# Altium schematic symbol library pporyzala-TI_Lighting.SchLib: 745 symbols (part 33 of 48)
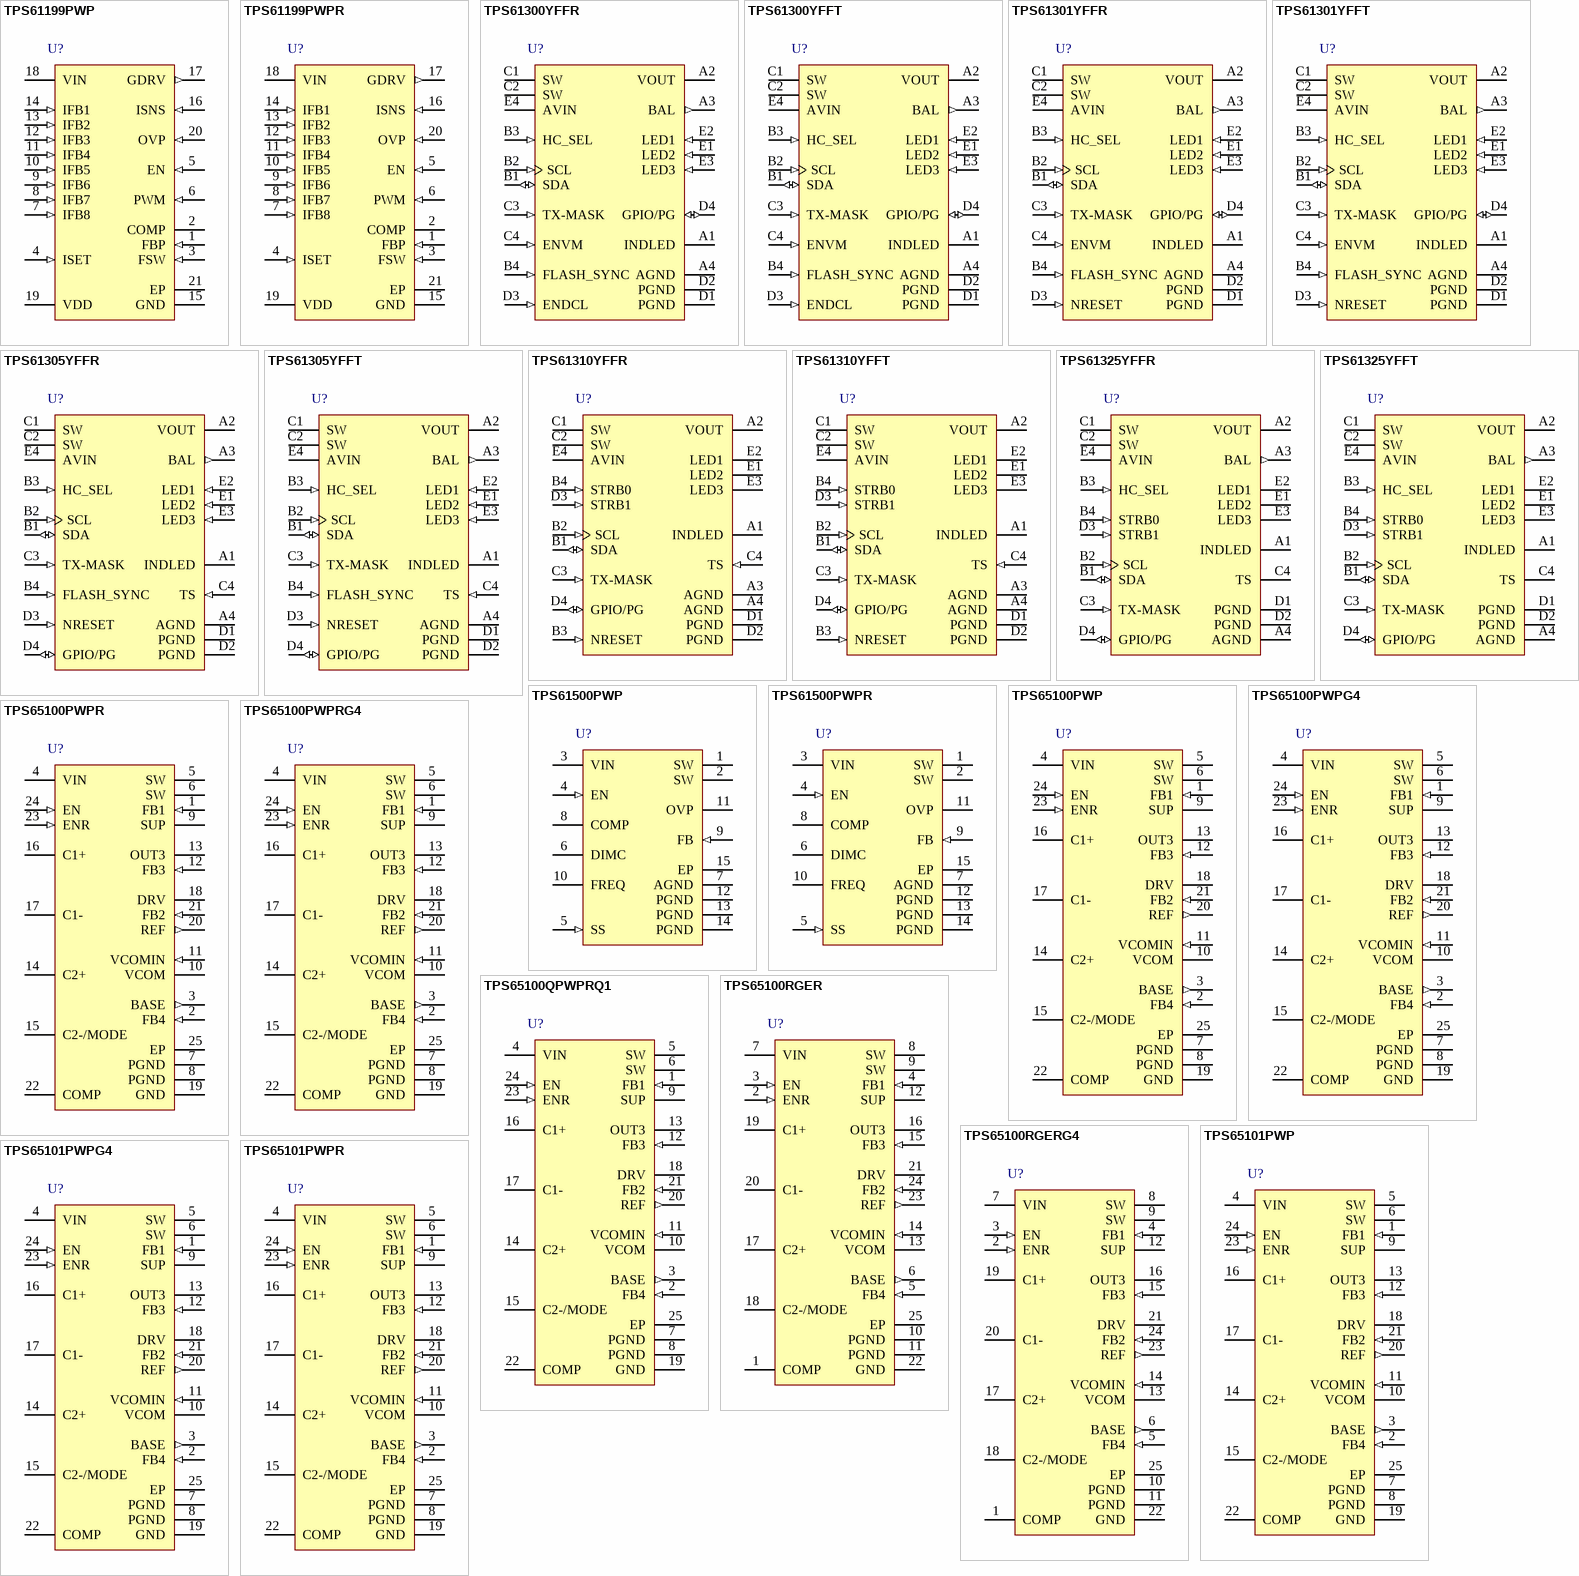
[diagram p63: symbols TPS61199PWP to TPS65101PWPR]

## TPS65101PWP
designator U?
4-Channel LCD Bias with Fully Integrated Postive Charge Pump, 3.3 V LDO Controller, 2.7 to 5.8 V, -40 to 85 degC, 24-pin SOP (PWP24), Green (RoHS & no Sb/Br); Manufacturer: Texas Instruments; PartNumber: TPS65101PWP; Iout(Max)(A): 0.02; Iq(Typ)(mA): 0.7; Rating: Catalog; SubFamily: LCD/OLED Display Bias Solutions; Switching Frequency(Typ)(kHz): 1600; Topology: Boost, Inverting Buck/Boost; Vin(Max)(V): 5.8; Vin(Min)(V): 2.7; DatasheetVersion: SLVS496C; PackageVersion: 4073225-5/I; PackageReference: PWP24-4420X1950TP; PackageDescription: 24-Lead, Plastic Small Outline, Body Size 4.4 x 7.8 mm, Pitch 0.65 mm; Supplier 1: Digi-Key; Supplier Part Number 1: TPS65101PWP-ND; Supplier 2: Newark; Supplier Part Number 2: 99K4419; Supplier 3: Mouser; Supplier Part Number 3: 595-TPS65101PWP; Eco-Plan: Green (RoHS & no Sb/Br); Mounting Technology: Surface Mount; Code_JEDEC: MO-153; ComponentLink1Description: Manufacturer URL; ComponentLink1URL: http://www.ti.com/; ComponentLink2Description: Datasheet; ComponentLink2URL: http://www.ti.com/general/docs/lit/getliterature.tsp?genericPartNumber=TPS65101&fileType=pdf; ComponentLink3Description: Package Specification; ComponentLink3URL: http://www.ti.com/lit/ds/symlink/tps65101.pdf
footprint TI-PWP24-4420X1950TP_N (SOP, 24-Leads, Body 7.8x4.4mm, Pitch 0.65mm, Thermal Pad 4.42x1.95mm, IPC Medium Density)
footprint TI-PWP24-4420X1950TP_L (SOP, 24-Leads, Body 7.8x4.4mm, Pitch 0.65mm, Thermal Pad 4.42x1.95mm, IPC High Density)
footprint TI-PWP24-4420X1950TP_M (SOP, 24-Leads, Body 7.8x4.4mm, Pitch 0.65mm, Thermal Pad 4.42x1.95mm, IPC Low Density)
pins: 1 FB1 (in) "Feedback pin of the boost converter", 2 FB4 (in) "Feedback pin of the linear regulator controller. The linear regulator controller is set to a fixed output voltage of 3.3 V or 3 V depending on the version.", 3 BASE (out) "Base drive output for the external transistor", 4 VIN (power) "Input voltage pin of the device", 5 SW (power) "Switch pin of the boost converter", 6 SW (power) "Switch pin of the boost converter", 7 PGND (power) "Power ground", 8 PGND (power) "Power ground", 9 SUP (power) "Supply pin of the positive, negative charge pump, boost converter gate drive circuit, and VCOM buffer. This pin should be connected to the output of the main boost converter and cannot be connected to any other voltage (See Datasheet)", 10 VCOM (power) "VCOM buffer output", 11 VCOMIN (in) "Positive input terminal of the VCOM buffer. When the VCOM buffer is not used, this terminal can be connected to GND to reduce the overall quiescent current of the IC.", 12 FB3 (in) "Feedback pin of positive charge pump", 13 OUT3 (power) "Positive charge pump output", 14 C2+ "Positive terminal for the charge pump flying capacitor. If the device runs in voltage doubler mode, this pin should be left open", 15 C2-/MODE, 16 C1+ "Positive terminal of the charge pump flying capacitor", 17 C1- "Negative terminal of the charge pump flying capacitor", 18 DRV (power) "External charge pump driver", 19 GND (power) "Ground", 20 REF (out) "Internal reference output typically 1.23 V", 21 FB2 (in) "Feedback pin of negative charge pump", 22 COMP "Compensation pin for the main boost converter. A small capacitor is connected to this pin.", 23 ENR (in) "Enable pin of the linear regulator controller. This pin should be terminated and not be left floating. Logic high enables the regulator and a logic low puts the regulator in shutdown.", 24 EN (in) "Enable pin of the device. This pin should be terminated and not be left floating. A logic high enables the device and a logic low shuts down the device.", 25 EP (power) "The PowerPad or exposed thermal die needs to be connected to the power ground pins (PGND)"

## TPS65101PWPG4
designator U?
4-Channel LCD Bias with Fully Integrated Postive Charge Pump, 3.3 V LDO Controller, 2.7 to 5.8 V, -40 to 85 degC, 24-pin SOP (PWP24), Green (RoHS & no Sb/Br); Manufacturer: Texas Instruments; PartNumber: TPS65101PWPG4; Iout(Max)(A): 0.02; Iq(Typ)(mA): 0.7; Rating: Catalog; SubFamily: LCD/OLED Display Bias Solutions; Switching Frequency(Typ)(kHz): 1600; Topology: Boost, Inverting Buck/Boost; Vin(Max)(V): 5.8; Vin(Min)(V): 2.7; DatasheetVersion: SLVS496C; PackageVersion: 4073225-5/I; PackageReference: PWP24-4420X1950TP; PackageDescription: 24-Lead, Plastic Small Outline, Body Size 4.4 x 7.8 mm, Pitch 0.65 mm; Supplier 1: Digi-Key; Supplier Part Number 1: TPS65101PWPG4-ND; Supplier 2: Newark; Supplier Part Number 2: 02M4319; Supplier 3: Mouser; Supplier Part Number 3: 595-TPS65101PWPG4; Eco-Plan: Green (RoHS & no Sb/Br); Mounting Technology: Surface Mount; Code_JEDEC: MO-153; ComponentLink1Description: Manufacturer URL; ComponentLink1URL: http://www.ti.com/; ComponentLink2Description: Datasheet; ComponentLink2URL: http://www.ti.com/general/docs/lit/getliterature.tsp?genericPartNumber=TPS65101&fileType=pdf; ComponentLink3Description: Package Specification; ComponentLink3URL: http://www.ti.com/lit/ds/symlink/tps65101.pdf
footprint TI-PWP24-4420X1950TP_N (SOP, 24-Leads, Body 7.8x4.4mm, Pitch 0.65mm, Thermal Pad 4.42x1.95mm, IPC Medium Density)
footprint TI-PWP24-4420X1950TP_L (SOP, 24-Leads, Body 7.8x4.4mm, Pitch 0.65mm, Thermal Pad 4.42x1.95mm, IPC High Density)
footprint TI-PWP24-4420X1950TP_M (SOP, 24-Leads, Body 7.8x4.4mm, Pitch 0.65mm, Thermal Pad 4.42x1.95mm, IPC Low Density)
pins: 1 FB1 (in) "Feedback pin of the boost converter", 2 FB4 (in) "Feedback pin of the linear regulator controller. The linear regulator controller is set to a fixed output voltage of 3.3 V or 3 V depending on the version.", 3 BASE (out) "Base drive output for the external transistor", 4 VIN (power) "Input voltage pin of the device", 5 SW (power) "Switch pin of the boost converter", 6 SW (power) "Switch pin of the boost converter", 7 PGND (power) "Power ground", 8 PGND (power) "Power ground", 9 SUP (power) "Supply pin of the positive, negative charge pump, boost converter gate drive circuit, and VCOM buffer. This pin should be connected to the output of the main boost converter and cannot be connected to any other voltage (See Datasheet)", 10 VCOM (power) "VCOM buffer output", 11 VCOMIN (in) "Positive input terminal of the VCOM buffer. When the VCOM buffer is not used, this terminal can be connected to GND to reduce the overall quiescent current of the IC.", 12 FB3 (in) "Feedback pin of positive charge pump", 13 OUT3 (power) "Positive charge pump output", 14 C2+ "Positive terminal for the charge pump flying capacitor. If the device runs in voltage doubler mode, this pin should be left open", 15 C2-/MODE, 16 C1+ "Positive terminal of the charge pump flying capacitor", 17 C1- "Negative terminal of the charge pump flying capacitor", 18 DRV (power) "External charge pump driver", 19 GND (power) "Ground", 20 REF (out) "Internal reference output typically 1.23 V", 21 FB2 (in) "Feedback pin of negative charge pump", 22 COMP "Compensation pin for the main boost converter. A small capacitor is connected to this pin.", 23 ENR (in) "Enable pin of the linear regulator controller. This pin should be terminated and not be left floating. Logic high enables the regulator and a logic low puts the regulator in shutdown.", 24 EN (in) "Enable pin of the device. This pin should be terminated and not be left floating. A logic high enables the device and a logic low shuts down the device.", 25 EP (power) "The PowerPad or exposed thermal die needs to be connected to the power ground pins (PGND)"

## TPS65101PWPR
designator U?
4-Channel LCD Bias with Fully Integrated Postive Charge Pump, 3.3 V LDO Controller, 2.7 to 5.8 V, -40 to 85 degC, 24-pin SOP (PWP24), Green (RoHS & no Sb/Br); Manufacturer: Texas Instruments; PartNumber: TPS65101PWPR; Iout(Max)(A): 0.02; Iq(Typ)(mA): 0.7; Rating: Catalog; SubFamily: LCD/OLED Display Bias Solutions; Switching Frequency(Typ)(kHz): 1600; Topology: Boost, Inverting Buck/Boost; Vin(Max)(V): 5.8; Vin(Min)(V): 2.7; DatasheetVersion: SLVS496C; PackageVersion: 4073225-5/I; PackageReference: PWP24-4420X1950TP; PackageDescription: 24-Lead, Plastic Small Outline, Body Size 4.4 x 7.8 mm, Pitch 0.65 mm; Supplier 1: Digi-Key; Supplier Part Number 1: 296-19711-2-ND; Supplier 2: Digi-Key; Supplier Part Number 2: 296-19711-1-ND; Supplier 3: Digi-Key; Supplier Part Number 3: 296-19711-6-ND; Supplier 4: Newark; Supplier Part Number 4: 99K4420; Supplier 5: Mouser; Supplier Part Number 5: 595-TPS65101PWPR; Eco-Plan: Green (RoHS & no Sb/Br); Mounting Technology: Surface Mount; Code_JEDEC: MO-153; ComponentLink1Description: Manufacturer URL; ComponentLink1URL: http://www.ti.com/; ComponentLink2Description: Datasheet; ComponentLink2URL: http://www.ti.com/general/docs/lit/getliterature.tsp?genericPartNumber=TPS65101&fileType=pdf; ComponentLink3Description: Package Specification; ComponentLink3URL: http://www.ti.com/lit/ds/symlink/tps65101.pdf
footprint TI-PWP24-4420X1950TP_N (SOP, 24-Leads, Body 7.8x4.4mm, Pitch 0.65mm, Thermal Pad 4.42x1.95mm, IPC Medium Density)
footprint TI-PWP24-4420X1950TP_L (SOP, 24-Leads, Body 7.8x4.4mm, Pitch 0.65mm, Thermal Pad 4.42x1.95mm, IPC High Density)
footprint TI-PWP24-4420X1950TP_M (SOP, 24-Leads, Body 7.8x4.4mm, Pitch 0.65mm, Thermal Pad 4.42x1.95mm, IPC Low Density)
pins: 1 FB1 (in) "Feedback pin of the boost converter", 2 FB4 (in) "Feedback pin of the linear regulator controller. The linear regulator controller is set to a fixed output voltage of 3.3 V or 3 V depending on the version.", 3 BASE (out) "Base drive output for the external transistor", 4 VIN (power) "Input voltage pin of the device", 5 SW (power) "Switch pin of the boost converter", 6 SW (power) "Switch pin of the boost converter", 7 PGND (power) "Power ground", 8 PGND (power) "Power ground", 9 SUP (power) "Supply pin of the positive, negative charge pump, boost converter gate drive circuit, and VCOM buffer. This pin should be connected to the output of the main boost converter and cannot be connected to any other voltage (See Datasheet)", 10 VCOM (power) "VCOM buffer output", 11 VCOMIN (in) "Positive input terminal of the VCOM buffer. When the VCOM buffer is not used, this terminal can be connected to GND to reduce the overall quiescent current of the IC.", 12 FB3 (in) "Feedback pin of positive charge pump", 13 OUT3 (power) "Positive charge pump output", 14 C2+ "Positive terminal for the charge pump flying capacitor. If the device runs in voltage doubler mode, this pin should be left open", 15 C2-/MODE, 16 C1+ "Positive terminal of the charge pump flying capacitor", 17 C1- "Negative terminal of the charge pump flying capacitor", 18 DRV (power) "External charge pump driver", 19 GND (power) "Ground", 20 REF (out) "Internal reference output typically 1.23 V", 21 FB2 (in) "Feedback pin of negative charge pump", 22 COMP "Compensation pin for the main boost converter. A small capacitor is connected to this pin.", 23 ENR (in) "Enable pin of the linear regulator controller. This pin should be terminated and not be left floating. Logic high enables the regulator and a logic low puts the regulator in shutdown.", 24 EN (in) "Enable pin of the device. This pin should be terminated and not be left floating. A logic high enables the device and a logic low shuts down the device.", 25 EP (power) "The PowerPad or exposed thermal die needs to be connected to the power ground pins (PGND)"

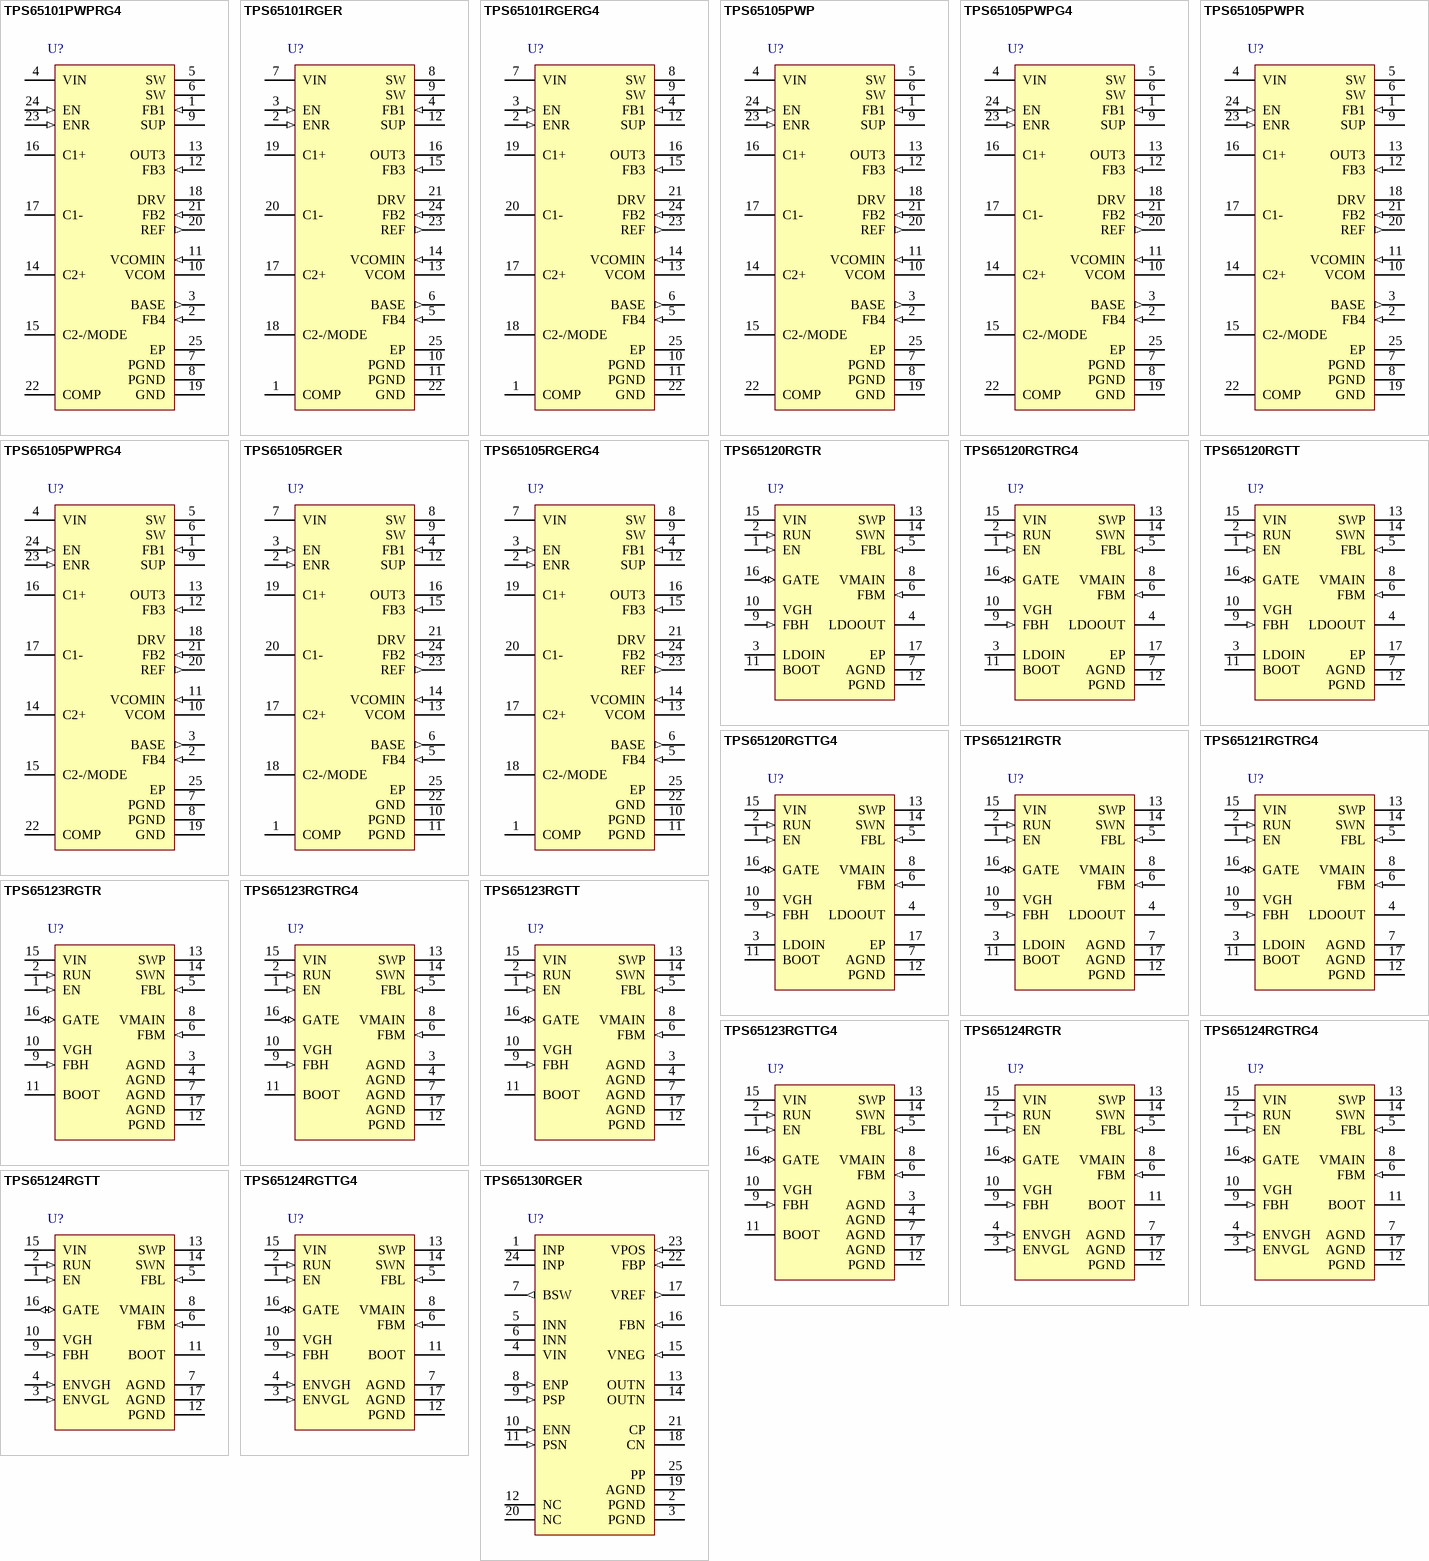
[diagram p21: symbols TPS65101PWPRG4 to TPS65130RGER]

## TPS65101PWPRG4
designator U?
4-Channel LCD Bias with Fully Integrated Postive Charge Pump, 3.3 V LDO Controller, 2.7 to 5.8 V, -40 to 85 degC, 24-pin SOP (PWP24), Green (RoHS & no Sb/Br); Manufacturer: Texas Instruments; PartNumber: TPS65101PWPRG4; Iout(Max)(A): 0.02; Iq(Typ)(mA): 0.7; Rating: Catalog; SubFamily: LCD/OLED Display Bias Solutions; Switching Frequency(Typ)(kHz): 1600; Topology: Boost, Inverting Buck/Boost; Vin(Max)(V): 5.8; Vin(Min)(V): 2.7; DatasheetVersion: SLVS496C; PackageVersion: 4073225-5/I; PackageReference: PWP24-4420X1950TP; PackageDescription: 24-Lead, Plastic Small Outline, Body Size 4.4 x 7.8 mm, Pitch 0.65 mm; Supplier 1: Digi-Key; Supplier Part Number 1: TPS65101PWPRG4-ND; Supplier 2: Mouser; Supplier Part Number 2: 595-TPS65101PWPRG4; Eco-Plan: Green (RoHS & no Sb/Br); Mounting Technology: Surface Mount; Code_JEDEC: MO-153; ComponentLink1Description: Manufacturer URL; ComponentLink1URL: http://www.ti.com/; ComponentLink2Description: Datasheet; ComponentLink2URL: http://www.ti.com/general/docs/lit/getliterature.tsp?genericPartNumber=TPS65101&fileType=pdf; ComponentLink3Description: Package Specification; ComponentLink3URL: http://www.ti.com/lit/ds/symlink/tps65101.pdf
footprint TI-PWP24-4420X1950TP_N (SOP, 24-Leads, Body 7.8x4.4mm, Pitch 0.65mm, Thermal Pad 4.42x1.95mm, IPC Medium Density)
footprint TI-PWP24-4420X1950TP_L (SOP, 24-Leads, Body 7.8x4.4mm, Pitch 0.65mm, Thermal Pad 4.42x1.95mm, IPC High Density)
footprint TI-PWP24-4420X1950TP_M (SOP, 24-Leads, Body 7.8x4.4mm, Pitch 0.65mm, Thermal Pad 4.42x1.95mm, IPC Low Density)
pins: 1 FB1 (in) "Feedback pin of the boost converter", 2 FB4 (in) "Feedback pin of the linear regulator controller. The linear regulator controller is set to a fixed output voltage of 3.3 V or 3 V depending on the version.", 3 BASE (out) "Base drive output for the external transistor", 4 VIN (power) "Input voltage pin of the device", 5 SW (power) "Switch pin of the boost converter", 6 SW (power) "Switch pin of the boost converter", 7 PGND (power) "Power ground", 8 PGND (power) "Power ground", 9 SUP (power) "Supply pin of the positive, negative charge pump, boost converter gate drive circuit, and VCOM buffer. This pin should be connected to the output of the main boost converter and cannot be connected to any other voltage (See Datasheet)", 10 VCOM (power) "VCOM buffer output", 11 VCOMIN (in) "Positive input terminal of the VCOM buffer. When the VCOM buffer is not used, this terminal can be connected to GND to reduce the overall quiescent current of the IC.", 12 FB3 (in) "Feedback pin of positive charge pump", 13 OUT3 (power) "Positive charge pump output", 14 C2+ "Positive terminal for the charge pump flying capacitor. If the device runs in voltage doubler mode, this pin should be left open", 15 C2-/MODE, 16 C1+ "Positive terminal of the charge pump flying capacitor", 17 C1- "Negative terminal of the charge pump flying capacitor", 18 DRV (power) "External charge pump driver", 19 GND (power) "Ground", 20 REF (out) "Internal reference output typically 1.23 V", 21 FB2 (in) "Feedback pin of negative charge pump", 22 COMP "Compensation pin for the main boost converter. A small capacitor is connected to this pin.", 23 ENR (in) "Enable pin of the linear regulator controller. This pin should be terminated and not be left floating. Logic high enables the regulator and a logic low puts the regulator in shutdown.", 24 EN (in) "Enable pin of the device. This pin should be terminated and not be left floating. A logic high enables the device and a logic low shuts down the device.", 25 EP (power) "The PowerPad or exposed thermal die needs to be connected to the power ground pins (PGND)"

## TPS65101RGER
designator U?
4-Channel LCD Bias with Fully Integrated Postive Charge Pump, 3.3 V LDO Controller, 2.7 to 5.8 V, -40 to 85 degC, 24-pin QFN (RGE24), Green (RoHS & no Sb/Br); Manufacturer: Texas Instruments; PartNumber: TPS65101RGER; Iout(Max)(A): 0.02; Iq(Typ)(mA): 0.7; Rating: Catalog; SubFamily: LCD/OLED Display Bias Solutions; Switching Frequency(Typ)(kHz): 1600; Topology: Boost, Inverting Buck/Boost; Vin(Max)(V): 5.8; Vin(Min)(V): 2.7; DatasheetVersion: SLVS496C; PackageVersion: 4204104/G; PackageReference: RGE24-2450X2450TP; PackageDescription: 24-Pin Plastic Flat Pack, Body 4 x 4 mm, 0.5 mm Pitch; Supplier 1: Digi-Key; Supplier Part Number 1: 296-19712-2-ND; Supplier 2: Digi-Key; Supplier Part Number 2: 296-19712-1-ND; Supplier 3: Digi-Key; Supplier Part Number 3: 296-19712-6-ND; Supplier 4: Newark; Supplier Part Number 4: 99K4421; Supplier 5: Mouser; Supplier Part Number 5: 595-TPS65101RGER; Eco-Plan: Green (RoHS & no Sb/Br); Mounting Technology: Surface Mount; Code_JEDEC: MO-220; ComponentLink1Description: Manufacturer URL; ComponentLink1URL: http://www.ti.com/; ComponentLink2Description: Datasheet; ComponentLink2URL: http://www.ti.com/general/docs/lit/getliterature.tsp?genericPartNumber=TPS65101&fileType=pdf; ComponentLink3Description: Package Specification; ComponentLink3URL: http://www.ti.com/litv/pdf/mpqf124f
footprint TI-RGE24-2450X2450TP_V (QFN, 24-Leads, Body 4x4mm, Pitch 0.5mm, Thermal Pad 2.45x2.45mm)
pins: 1 COMP "Compensation pin for the main boost converter. A small capacitor is connected to this pin.", 2 ENR (in) "Enable pin of the linear regulator controller. This pin should be terminated and not be left floating. Logic high enables the regulator and a logic low puts the regulator in shutdown.", 3 EN (in) "Enable pin of the device.This pin should be terminated and be left floating.A logic high enables the device and a logic low shuts down the device.", 4 FB1 (in) "Feedback pin of the boost converter", 5 FB4 (in) "Feedback pin the of the linear regulator controller .The linear regulator controller is set to a fixed output voltage of 3.3 V of 3 V depending on the version.", 6 BASE (out) "Base drive output for the external transistor", 7 VIN (power) "Input voltage pin of the device.", 8 SW (power) "Switch pin of the boost converter", 9 SW (power) "Switch pin of the boost converter", 10 PGND (power) "Power ground", 11 PGND (power) "Power ground", 12 SUP (power) "Supply pin of the positive, negative charge pump, boost converter, and gate drive circuit.This pin needs to be connected to the output of the main boots converter and cannot be onnected to any other voltage source.For (See Datasheet)", 13 VCOM (power) "VCOM buffer output", 14 VCOMIN (in) "Positive input terminal of the VCOM buffer.When the VCOM buffer is not used ,this terminal can be connected toGND to reduce the overall quiescent current of the IC", 15 FB3 (in) "Feedback pin of positive charge pump", 16 OUT3 (power) "Positive charge pump output", 17 C2+ "Positive terminal for the charge pump flying capacitor.If the device runs in voltage doubler mode, this pin should be left open.", 18 C2-/MODE "Negative terminal of the charge pump flying capacitor and charge pump MODE pin. If the flying capacitor is connected to this pin, the concerter operates in a voltage tripler mode.if the charge pump needs to operate in a (See Datasheet)", 19 C1+ "Positive terminal of the charge pump flying capacitor", 20 C1- "Negative terminal of the charge pump flying capacitor", 21 DRV (power) "External charge pump driver", 22 GND (power) "Ground", 23 REF (out) "Internal reference output typically 1.23 V", 24 FB2 (in) "Feedback pin of negative charge pump", 25 EP (power) "The PowerPAD or exposed thermal die needs to be connected to power ground pins (PGND)"

## TPS65101RGERG4
designator U?
4-Channel LCD Bias with Fully Integrated Postive Charge Pump, 3.3 V LDO Controller, 2.7 to 5.8 V, -40 to 85 degC, 24-pin QFN (RGE24), Green (RoHS & no Sb/Br); Manufacturer: Texas Instruments; PartNumber: TPS65101RGERG4; Iout(Max)(A): 0.02; Iq(Typ)(mA): 0.7; Rating: Catalog; SubFamily: LCD/OLED Display Bias Solutions; Switching Frequency(Typ)(kHz): 1600; Topology: Boost, Inverting Buck/Boost; Vin(Max)(V): 5.8; Vin(Min)(V): 2.7; DatasheetVersion: SLVS496C; PackageVersion: 4204104/G; PackageReference: RGE24-2450X2450TP; PackageDescription: 24-Pin Plastic Flat Pack, Body 4 x 4 mm, 0.5 mm Pitch; Supplier 1: Digi-Key; Supplier Part Number 1: TPS65101RGERG4-ND; Supplier 2: Mouser; Supplier Part Number 2: 595-TPS65101RGERG4; Eco-Plan: Green (RoHS & no Sb/Br); Mounting Technology: Surface Mount; Code_JEDEC: MO-220; ComponentLink1Description: Manufacturer URL; ComponentLink1URL: http://www.ti.com/; ComponentLink2Description: Datasheet; ComponentLink2URL: http://www.ti.com/general/docs/lit/getliterature.tsp?genericPartNumber=TPS65101&fileType=pdf; ComponentLink3Description: Package Specification; ComponentLink3URL: http://www.ti.com/litv/pdf/mpqf124f
footprint TI-RGE24-2450X2450TP_V (QFN, 24-Leads, Body 4x4mm, Pitch 0.5mm, Thermal Pad 2.45x2.45mm)
pins: 1 COMP "Compensation pin for the main boost converter. A small capacitor is connected to this pin.", 2 ENR (in) "Enable pin of the linear regulator controller. This pin should be terminated and not be left floating. Logic high enables the regulator and a logic low puts the regulator in shutdown.", 3 EN (in) "Enable pin of the device.This pin should be terminated and be left floating.A logic high enables the device and a logic low shuts down the device.", 4 FB1 (in) "Feedback pin of the boost converter", 5 FB4 (in) "Feedback pin the of the linear regulator controller .The linear regulator controller is set to a fixed output voltage of 3.3 V of 3 V depending on the version.", 6 BASE (out) "Base drive output for the external transistor", 7 VIN (power) "Input voltage pin of the device.", 8 SW (power) "Switch pin of the boost converter", 9 SW (power) "Switch pin of the boost converter", 10 PGND (power) "Power ground", 11 PGND (power) "Power ground", 12 SUP (power) "Supply pin of the positive, negative charge pump, boost converter, and gate drive circuit.This pin needs to be connected to the output of the main boots converter and cannot be onnected to any other voltage source.For (See Datasheet)", 13 VCOM (power) "VCOM buffer output", 14 VCOMIN (in) "Positive input terminal of the VCOM buffer.When the VCOM buffer is not used ,this terminal can be connected toGND to reduce the overall quiescent current of the IC", 15 FB3 (in) "Feedback pin of positive charge pump", 16 OUT3 (power) "Positive charge pump output", 17 C2+ "Positive terminal for the charge pump flying capacitor.If the device runs in voltage doubler mode, this pin should be left open.", 18 C2-/MODE "Negative terminal of the charge pump flying capacitor and charge pump MODE pin. If the flying capacitor is connected to this pin, the concerter operates in a voltage tripler mode.if the charge pump needs to operate in a (See Datasheet)", 19 C1+ "Positive terminal of the charge pump flying capacitor", 20 C1- "Negative terminal of the charge pump flying capacitor", 21 DRV (power) "External charge pump driver", 22 GND (power) "Ground", 23 REF (out) "Internal reference output typically 1.23 V", 24 FB2 (in) "Feedback pin of negative charge pump", 25 EP (power) "The PowerPAD or exposed thermal die needs to be connected to power ground pins (PGND)"

## TPS65105PWP
designator U?
4-Channel LCD Bias with Fully Integrated Postive Charge Pump, 3.3 V LDO Controller, 2.7 to 5.8 V, -40 to 85 degC, 24-pin SOP (PWP24), Green (RoHS & no Sb/Br); Manufacturer: Texas Instruments; PartNumber: TPS65105PWP; Iout(Max)(A): 0.02; Iq(Typ)(mA): 0.7; Rating: Catalog; SubFamily: LCD/OLED Display Bias Solutions; Switching Frequency(Typ)(kHz): 1600; Synchronous Rectification: TRUE; Topology: Boost, Inverting Buck/Boost; Vin(Max)(V): 5.8; Vin(Min)(V): 2.7; DatasheetVersion: SLVS496C; PackageVersion: 4073225-5/I; PackageReference: PWP24-4420X1950TP; PackageDescription: 24-Lead, Plastic Small Outline, Body Size 4.4 x 7.8 mm, Pitch 0.65 mm; Supplier 1: Digi-Key; Supplier Part Number 1: TPS65105PWP-ND; Supplier 2: Newark; Supplier Part Number 2: 87H2917; Supplier 3: Mouser; Supplier Part Number 3: 595-TPS65105PWP; Eco-Plan: Green (RoHS & no Sb/Br); Mounting Technology: Surface Mount; Code_JEDEC: MO-153; ComponentLink1Description: Manufacturer URL; ComponentLink1URL: http://www.ti.com/; ComponentLink2Description: Datasheet; ComponentLink2URL: http://www.ti.com/general/docs/lit/getliterature.tsp?genericPartNumber=TPS65105&fileType=pdf; ComponentLink3Description: Package Specification; ComponentLink3URL: http://www.ti.com/lit/ds/symlink/tps65101.pdf
footprint TI-PWP24-4420X1950TP_N (SOP, 24-Leads, Body 7.8x4.4mm, Pitch 0.65mm, Thermal Pad 4.42x1.95mm, IPC Medium Density)
footprint TI-PWP24-4420X1950TP_L (SOP, 24-Leads, Body 7.8x4.4mm, Pitch 0.65mm, Thermal Pad 4.42x1.95mm, IPC High Density)
footprint TI-PWP24-4420X1950TP_M (SOP, 24-Leads, Body 7.8x4.4mm, Pitch 0.65mm, Thermal Pad 4.42x1.95mm, IPC Low Density)
pins: 1 FB1 (in) "Feedback pin of the boost converter", 2 FB4 (in) "Feedback pin of the linear regulator controller. The linear regulator controller is set to a fixed output voltage of 3.3 V or 3 V depending on the version.", 3 BASE (out) "Base drive output for the external transistor", 4 VIN (power) "Input voltage pin of the device", 5 SW (power) "Switch pin of the boost converter", 6 SW (power) "Switch pin of the boost converter", 7 PGND (power) "Power ground", 8 PGND (power) "Power ground", 9 SUP (power) "Supply pin of the positive, negative charge pump, boost converter gate drive circuit, and VCOM buffer. This pin should be connected to the output of the main boost converter and cannot be connected to any other voltage (See Datasheet)", 10 VCOM (power) "VCOM buffer output", 11 VCOMIN (in) "Positive input terminal of the VCOM buffer. When the VCOM buffer is not used, this terminal can be connected to GND to reduce the overall quiescent current of the IC.", 12 FB3 (in) "Feedback pin of positive charge pump", 13 OUT3 (power) "Positive charge pump output", 14 C2+ "Positive terminal for the charge pump flying capacitor. If the device runs in voltage doubler mode, this pin should be left open.", 15 C2-/MODE "Negative terminal of the charge pump flying capacitor and charge pump MODE pin. If the flying capacitor is connected to this pin, the converter operates in a voltage tripler mode. If the charge pump needs to operate in a (See Datasheet)", 16 C1+ "Positive terminal of the charge pump flying capacitor", 17 C1- "Negative terminal of the charge pump flying capacitor", 18 DRV (power) "External charge pump driver", 19 GND (power) "Ground", 20 REF (out) "Internal reference output typically 1.23 V", 21 FB2 (in) "Feedback pin of negative charge pump", 22 COMP "Compensation pin for the main boost converter. A small capacitor is connected to this pin.", 23 ENR (in) "Enable pin of the linear regulator controller. This pin should be terminated and not be left floating. Logic high enables the regulator and a logic low puts the regulator in shutdown.", 24 EN (in) "Enable pin of the device. This pin should be terminated and not be left floating. A logic high enables the device and a logic low shuts down the device.", 25 EP (power) "The PowerPad or exposed thermal die needs to be connected to the power ground pins (PGND)"

## TPS65105PWPG4
designator U?
4-Channel LCD Bias with Fully Integrated Postive Charge Pump, 3.3 V LDO Controller, 2.7 to 5.8 V, -40 to 85 degC, 24-pin SOP (PWP24), Green (RoHS & no Sb/Br); Manufacturer: Texas Instruments; PartNumber: TPS65105PWPG4; Iout(Max)(A): 0.02; Iq(Typ)(mA): 0.7; Rating: Catalog; SubFamily: LCD/OLED Display Bias Solutions; Switching Frequency(Typ)(kHz): 1600; Synchronous Rectification: TRUE; Topology: Boost, Inverting Buck/Boost; Vin(Max)(V): 5.8; Vin(Min)(V): 2.7; DatasheetVersion: SLVS496C; PackageVersion: 4073225-5/I; PackageReference: PWP24-4420X1950TP; PackageDescription: 24-Lead, Plastic Small Outline, Body Size 4.4 x 7.8 mm, Pitch 0.65 mm; Supplier 1: Digi-Key; Supplier Part Number 1: TPS65105PWPG4-ND; Supplier 2: Mouser; Supplier Part Number 2: 595-TPS65105PWPG4; Eco-Plan: Green (RoHS & no Sb/Br); Mounting Technology: Surface Mount; Code_JEDEC: MO-153; ComponentLink1Description: Manufacturer URL; ComponentLink1URL: http://www.ti.com/; ComponentLink2Description: Datasheet; ComponentLink2URL: http://www.ti.com/general/docs/lit/getliterature.tsp?genericPartNumber=TPS65105&fileType=pdf; ComponentLink3Description: Package Specification; ComponentLink3URL: http://www.ti.com/lit/ds/symlink/tps65101.pdf
footprint TI-PWP24-4420X1950TP_N (SOP, 24-Leads, Body 7.8x4.4mm, Pitch 0.65mm, Thermal Pad 4.42x1.95mm, IPC Medium Density)
footprint TI-PWP24-4420X1950TP_L (SOP, 24-Leads, Body 7.8x4.4mm, Pitch 0.65mm, Thermal Pad 4.42x1.95mm, IPC High Density)
footprint TI-PWP24-4420X1950TP_M (SOP, 24-Leads, Body 7.8x4.4mm, Pitch 0.65mm, Thermal Pad 4.42x1.95mm, IPC Low Density)
pins: 1 FB1 (in) "Feedback pin of the boost converter", 2 FB4 (in) "Feedback pin of the linear regulator controller. The linear regulator controller is set to a fixed output voltage of 3.3 V or 3 V depending on the version.", 3 BASE (out) "Base drive output for the external transistor", 4 VIN (power) "Input voltage pin of the device", 5 SW (power) "Switch pin of the boost converter", 6 SW (power) "Switch pin of the boost converter", 7 PGND (power) "Power ground", 8 PGND (power) "Power ground", 9 SUP (power) "Supply pin of the positive, negative charge pump, boost converter gate drive circuit, and VCOM buffer. This pin should be connected to the output of the main boost converter and cannot be connected to any other voltage (See Datasheet)", 10 VCOM (power) "VCOM buffer output", 11 VCOMIN (in) "Positive input terminal of the VCOM buffer. When the VCOM buffer is not used, this terminal can be connected to GND to reduce the overall quiescent current of the IC.", 12 FB3 (in) "Feedback pin of positive charge pump", 13 OUT3 (power) "Positive charge pump output", 14 C2+ "Positive terminal for the charge pump flying capacitor. If the device runs in voltage doubler mode, this pin should be left open.", 15 C2-/MODE "Negative terminal of the charge pump flying capacitor and charge pump MODE pin. If the flying capacitor is connected to this pin, the converter operates in a voltage tripler mode. If the charge pump needs to operate in a (See Datasheet)", 16 C1+ "Positive terminal of the charge pump flying capacitor", 17 C1- "Negative terminal of the charge pump flying capacitor", 18 DRV (power) "External charge pump driver", 19 GND (power) "Ground", 20 REF (out) "Internal reference output typically 1.23 V", 21 FB2 (in) "Feedback pin of negative charge pump", 22 COMP "Compensation pin for the main boost converter. A small capacitor is connected to this pin.", 23 ENR (in) "Enable pin of the linear regulator controller. This pin should be terminated and not be left floating. Logic high enables the regulator and a logic low puts the regulator in shutdown.", 24 EN (in) "Enable pin of the device. This pin should be terminated and not be left floating. A logic high enables the device and a logic low shuts down the device.", 25 EP (power) "The PowerPad or exposed thermal die needs to be connected to the power ground pins (PGND)"

## TPS65105PWPR
designator U?
4-Channel LCD Bias with Fully Integrated Postive Charge Pump, 3.3 V LDO Controller, 2.7 to 5.8 V, -40 to 85 degC, 24-pin SOP (PWP24), Green (RoHS & no Sb/Br); Manufacturer: Texas Instruments; PartNumber: TPS65105PWPR; Iout(Max)(A): 0.02; Iq(Typ)(mA): 0.7; Rating: Catalog; SubFamily: LCD/OLED Display Bias Solutions; Switching Frequency(Typ)(kHz): 1600; Synchronous Rectification: TRUE; Topology: Boost, Inverting Buck/Boost; Vin(Max)(V): 5.8; Vin(Min)(V): 2.7; DatasheetVersion: SLVS496C; PackageVersion: 4073225-5/I; PackageReference: PWP24-4420X1950TP; PackageDescription: 24-Lead, Plastic Small Outline, Body Size 4.4 x 7.8 mm, Pitch 0.65 mm; Supplier 1: Digi-Key; Supplier Part Number 1: 296-18992-2-ND; Supplier 2: Digi-Key; Supplier Part Number 2: 296-18992-1-ND; Supplier 3: Digi-Key; Supplier Part Number 3: 296-18992-6-ND; Supplier 4: Newark; Supplier Part Number 4: 87H2918; Supplier 5: Mouser; Supplier Part Number 5: 595-TPS65105PWPR; Eco-Plan: Green (RoHS & no Sb/Br); Mounting Technology: Surface Mount; Code_JEDEC: MO-153; ComponentLink1Description: Manufacturer URL; ComponentLink1URL: http://www.ti.com/; ComponentLink2Description: Datasheet; ComponentLink2URL: http://www.ti.com/general/docs/lit/getliterature.tsp?genericPartNumber=TPS65105&fileType=pdf; ComponentLink3Description: Package Specification; ComponentLink3URL: http://www.ti.com/lit/ds/symlink/tps65101.pdf
footprint TI-PWP24-4420X1950TP_N (SOP, 24-Leads, Body 7.8x4.4mm, Pitch 0.65mm, Thermal Pad 4.42x1.95mm, IPC Medium Density)
footprint TI-PWP24-4420X1950TP_L (SOP, 24-Leads, Body 7.8x4.4mm, Pitch 0.65mm, Thermal Pad 4.42x1.95mm, IPC High Density)
footprint TI-PWP24-4420X1950TP_M (SOP, 24-Leads, Body 7.8x4.4mm, Pitch 0.65mm, Thermal Pad 4.42x1.95mm, IPC Low Density)
pins: 1 FB1 (in) "Feedback pin of the boost converter", 2 FB4 (in) "Feedback pin of the linear regulator controller. The linear regulator controller is set to a fixed output voltage of 3.3 V or 3 V depending on the version.", 3 BASE (out) "Base drive output for the external transistor", 4 VIN (power) "Input voltage pin of the device", 5 SW (power) "Switch pin of the boost converter", 6 SW (power) "Switch pin of the boost converter", 7 PGND (power) "Power ground", 8 PGND (power) "Power ground", 9 SUP (power) "Supply pin of the positive, negative charge pump, boost converter gate drive circuit, and VCOM buffer. This pin should be connected to the output of the main boost converter and cannot be connected to any other voltage (See Datasheet)", 10 VCOM (power) "VCOM buffer output", 11 VCOMIN (in) "Positive input terminal of the VCOM buffer. When the VCOM buffer is not used, this terminal can be connected to GND to reduce the overall quiescent current of the IC.", 12 FB3 (in) "Feedback pin of positive charge pump", 13 OUT3 (power) "Positive charge pump output", 14 C2+ "Positive terminal for the charge pump flying capacitor. If the device runs in voltage doubler mode, this pin should be left open.", 15 C2-/MODE "Negative terminal of the charge pump flying capacitor and charge pump MODE pin. If the flying capacitor is connected to this pin, the converter operates in a voltage tripler mode. If the charge pump needs to operate in a (See Datasheet)", 16 C1+ "Positive terminal of the charge pump flying capacitor", 17 C1- "Negative terminal of the charge pump flying capacitor", 18 DRV (power) "External charge pump driver", 19 GND (power) "Ground", 20 REF (out) "Internal reference output typically 1.23 V", 21 FB2 (in) "Feedback pin of negative charge pump", 22 COMP "Compensation pin for the main boost converter. A small capacitor is connected to this pin.", 23 ENR (in) "Enable pin of the linear regulator controller. This pin should be terminated and not be left floating. Logic high enables the regulator and a logic low puts the regulator in shutdown.", 24 EN (in) "Enable pin of the device. This pin should be terminated and not be left floating. A logic high enables the device and a logic low shuts down the device.", 25 EP (power) "The PowerPad or exposed thermal die needs to be connected to the power ground pins (PGND)"

## TPS65105PWPRG4
designator U?
4-Channel LCD Bias with Fully Integrated Postive Charge Pump, 3.3 V LDO Controller, 2.7 to 5.8 V, -40 to 85 degC, 24-pin SOP (PWP24), Green (RoHS & no Sb/Br); Manufacturer: Texas Instruments; PartNumber: TPS65105PWPRG4; Iout(Max)(A): 0.02; Iq(Typ)(mA): 0.7; Rating: Catalog; SubFamily: LCD/OLED Display Bias Solutions; Switching Frequency(Typ)(kHz): 1600; Synchronous Rectification: TRUE; Topology: Boost, Inverting Buck/Boost; Vin(Max)(V): 5.8; Vin(Min)(V): 2.7; DatasheetVersion: SLVS496C; PackageVersion: 4073225-5/I; PackageReference: PWP24-4420X1950TP; PackageDescription: 24-Lead, Plastic Small Outline, Body Size 4.4 x 7.8 mm, Pitch 0.65 mm; Supplier 1: Digi-Key; Supplier Part Number 1: TPS65105PWPRG4-ND; Supplier 2: Newark; Supplier Part Number 2: 08K4965; Supplier 3: Mouser; Supplier Part Number 3: 595-TPS65105PWPRG4; Eco-Plan: Green (RoHS & no Sb/Br); Mounting Technology: Surface Mount; Code_JEDEC: MO-153; ComponentLink1Description: Manufacturer URL; ComponentLink1URL: http://www.ti.com/; ComponentLink2Description: Datasheet; ComponentLink2URL: http://www.ti.com/general/docs/lit/getliterature.tsp?genericPartNumber=TPS65105&fileType=pdf; ComponentLink3Description: Package Specification; ComponentLink3URL: http://www.ti.com/lit/ds/symlink/tps65101.pdf
footprint TI-PWP24-4420X1950TP_N (SOP, 24-Leads, Body 7.8x4.4mm, Pitch 0.65mm, Thermal Pad 4.42x1.95mm, IPC Medium Density)
footprint TI-PWP24-4420X1950TP_L (SOP, 24-Leads, Body 7.8x4.4mm, Pitch 0.65mm, Thermal Pad 4.42x1.95mm, IPC High Density)
footprint TI-PWP24-4420X1950TP_M (SOP, 24-Leads, Body 7.8x4.4mm, Pitch 0.65mm, Thermal Pad 4.42x1.95mm, IPC Low Density)
pins: 1 FB1 (in) "Feedback pin of the boost converter", 2 FB4 (in) "Feedback pin of the linear regulator controller. The linear regulator controller is set to a fixed output voltage of 3.3 V or 3 V depending on the version.", 3 BASE (out) "Base drive output for the external transistor", 4 VIN (power) "Input voltage pin of the device", 5 SW (power) "Switch pin of the boost converter", 6 SW (power) "Switch pin of the boost converter", 7 PGND (power) "Power ground", 8 PGND (power) "Power ground", 9 SUP (power) "Supply pin of the positive, negative charge pump, boost converter gate drive circuit, and VCOM buffer. This pin should be connected to the output of the main boost converter and cannot be connected to any other voltage (See Datasheet)", 10 VCOM (power) "VCOM buffer output", 11 VCOMIN (in) "Positive input terminal of the VCOM buffer. When the VCOM buffer is not used, this terminal can be connected to GND to reduce the overall quiescent current of the IC.", 12 FB3 (in) "Feedback pin of positive charge pump", 13 OUT3 (power) "Positive charge pump output", 14 C2+ "Positive terminal for the charge pump flying capacitor. If the device runs in voltage doubler mode, this pin should be left open.", 15 C2-/MODE "Negative terminal of the charge pump flying capacitor and charge pump MODE pin. If the flying capacitor is connected to this pin, the converter operates in a voltage tripler mode. If the charge pump needs to operate in a (See Datasheet)", 16 C1+ "Positive terminal of the charge pump flying capacitor", 17 C1- "Negative terminal of the charge pump flying capacitor", 18 DRV (power) "External charge pump driver", 19 GND (power) "Ground", 20 REF (out) "Internal reference output typically 1.23 V", 21 FB2 (in) "Feedback pin of negative charge pump", 22 COMP "Compensation pin for the main boost converter. A small capacitor is connected to this pin.", 23 ENR (in) "Enable pin of the linear regulator controller. This pin should be terminated and not be left floating. Logic high enables the regulator and a logic low puts the regulator in shutdown.", 24 EN (in) "Enable pin of the device. This pin should be terminated and not be left floating. A logic high enables the device and a logic low shuts down the device.", 25 EP (power) "The PowerPad or exposed thermal die needs to be connected to the power ground pins (PGND)"

## TPS65105RGER
designator U?
4-Channel LCD Bias with Fully Integrated Postive Charge Pump, 3.3 V LDO Controller, 2.7 to 5.8 V, -40 to 85 degC, 24-pin QFN (RGE24), Green (RoHS & no Sb/Br); Manufacturer: Texas Instruments; PartNumber: TPS65105RGER; Iout(Max)(A): 0.02; Iq(Typ)(mA): 0.7; Rating: Catalog; SubFamily: LCD/OLED Display Bias Solutions; Switching Frequency(Typ)(kHz): 1600; Synchronous Rectification: TRUE; Topology: Boost, Inverting Buck/Boost; Vin(Max)(V): 5.8; Vin(Min)(V): 2.7; DatasheetVersion: SLVS496C; PackageVersion: 4204104/G; PackageReference: RGE24-2450X2450TP; PackageDescription: 24-Pin Plastic Flat Pack, Body 4 x 4 mm, 0.5 mm Pitch; Supplier 1: Digi-Key; Supplier Part Number 1: 296-18993-2-ND; Supplier 2: Digi-Key; Supplier Part Number 2: 296-18993-1-ND; Supplier 3: Digi-Key; Supplier Part Number 3: 296-18993-6-ND; Supplier 4: Newark; Supplier Part Number 4: 87H2919; Supplier 5: Mouser; Supplier Part Number 5: 595-TPS65105RGER; Eco-Plan: Green (RoHS & no Sb/Br); Mounting Technology: Surface Mount; Code_JEDEC: MO-220; ComponentLink1Description: Manufacturer URL; ComponentLink1URL: http://www.ti.com/; ComponentLink2Description: Datasheet; ComponentLink2URL: http://www.ti.com/general/docs/lit/getliterature.tsp?genericPartNumber=TPS65105&fileType=pdf; ComponentLink3Description: Package Specification; ComponentLink3URL: http://www.ti.com/litv/pdf/mpqf124f
footprint TI-RGE24-2450X2450TP_V (QFN, 24-Leads, Body 4x4mm, Pitch 0.5mm, Thermal Pad 2.45x2.45mm)
pins: 1 COMP "Compensation pin for the main boost converter. A small capacitor is connected to this pin.", 2 ENR (in) "Enable pin of the linear regulator controller. This pin should be terminated and not be left floating. Logic high enables the regulator and a logic low puts the regulator in shutdown.", 3 EN (in) "Enable pin of the device.This pin should be terminated and be left floating.A logic high enables the device and a logic low shuts down the device.", 4 FB1 (in) "Feedback pin of the boost converter", 5 FB4 (in) "Feedback pin the of the linear regulator controller .The linear regulator controller is set to a fixed output voltage of 3.3 V of 3 V depending on the version.", 6 BASE (out) "Base drive output for the external transistor", 7 VIN (power) "Input voltage pin of the device.", 8 SW (power) "Switch pin of the boost converter", 9 SW (power) "Switch pin of the boost converter", 10 PGND (power) "Power ground", 11 PGND (power) "Power ground", 12 SUP (power) "Supply pin of the positive, negative charge pump, boost converter, and gate drive circuit.This pin needs to be connected to the output of the main boots converter and cannot be onnected to any other voltage source.For (See Datasheet)", 13 VCOM (power) "VCOM buffer output", 14 VCOMIN (in) "Positive terminal of the VCOM buffer.When the VCOM buffer is not used ,this terminal can be connected toGND to reduce the overall quiescent current of the IC", 15 FB3 (in) "Feedback pin of positive charge pump", 16 OUT3 (power) "Positive charge pump output", 17 C2+ "Positive terminal for the charge pump flying capacitor.If the device runs in voltage doubler mode, this pin should be left open.", 18 C2-/MODE "Negative terminal of the charge pump flying capacitor and charge pump MODE pin. If the flying capacitor is connected to this pin, the concerter operates in a voltage tripler mode.if the charge pump needs to operate in a (See Datasheet)", 19 C1+ "Positive terminal of the charge pump flying capacitor", 20 C1- "Negative terminal of the charge pump flying capacitor", 21 DRV (power) "External charge pump driver", 22 GND (power) "Ground", 23 REF (out) "Internal reference output typically 1.23 V", 24 FB2 (in) "Feedback pin of negative charge pump", 25 EP (power) "The PowerPAD or exposed thermal die needs to be connected to power ground pins (PGND)"

## TPS65105RGERG4
designator U?
4-Channel LCD Bias with Fully Integrated Postive Charge Pump, 3.3 V LDO Controller, 2.7 to 5.8 V, -40 to 85 degC, 24-pin QFN (RGE24), Green (RoHS & no Sb/Br); Manufacturer: Texas Instruments; PartNumber: TPS65105RGERG4; Iout(Max)(A): 0.02; Iq(Typ)(mA): 0.7; Rating: Catalog; SubFamily: LCD/OLED Display Bias Solutions; Switching Frequency(Typ)(kHz): 1600; Synchronous Rectification: TRUE; Topology: Boost, Inverting Buck/Boost; Vin(Max)(V): 5.8; Vin(Min)(V): 2.7; DatasheetVersion: SLVS496C; PackageVersion: 4204104/G; PackageReference: RGE24-2450X2450TP; PackageDescription: 24-Pin Plastic Flat Pack, Body 4 x 4 mm, 0.5 mm Pitch; Supplier 1: Digi-Key; Supplier Part Number 1: TPS65105RGERG4-ND; Supplier 2: Mouser; Supplier Part Number 2: 595-TPS65105RGERG4; Eco-Plan: Green (RoHS & no Sb/Br); Mounting Technology: Surface Mount; Code_JEDEC: MO-220; ComponentLink1Description: Manufacturer URL; ComponentLink1URL: http://www.ti.com/; ComponentLink2Description: Datasheet; ComponentLink2URL: http://www.ti.com/general/docs/lit/getliterature.tsp?genericPartNumber=TPS65105&fileType=pdf; ComponentLink3Description: Package Specification; ComponentLink3URL: http://www.ti.com/litv/pdf/mpqf124f
footprint TI-RGE24-2450X2450TP_V (QFN, 24-Leads, Body 4x4mm, Pitch 0.5mm, Thermal Pad 2.45x2.45mm)
pins: 1 COMP "Compensation pin for the main boost converter. A small capacitor is connected to this pin.", 2 ENR (in) "Enable pin of the linear regulator controller. This pin should be terminated and not be left floating. Logic high enables the regulator and a logic low puts the regulator in shutdown.", 3 EN (in) "Enable pin of the device.This pin should be terminated and be left floating.A logic high enables the device and a logic low shuts down the device.", 4 FB1 (in) "Feedback pin of the boost converter", 5 FB4 (in) "Feedback pin the of the linear regulator controller .The linear regulator controller is set to a fixed output voltage of 3.3 V of 3 V depending on the version.", 6 BASE (out) "Base drive output for the external transistor", 7 VIN (power) "Input voltage pin of the device.", 8 SW (power) "Switch pin of the boost converter", 9 SW (power) "Switch pin of the boost converter", 10 PGND (power) "Power ground", 11 PGND (power) "Power ground", 12 SUP (power) "Supply pin of the positive, negative charge pump, boost converter, and gate drive circuit.This pin needs to be connected to the output of the main boots converter and cannot be onnected to any other voltage source.For (See Datasheet)", 13 VCOM (power) "VCOM buffer output", 14 VCOMIN (in) "Positive terminal of the VCOM buffer.When the VCOM buffer is not used ,this terminal can be connected toGND to reduce the overall quiescent current of the IC", 15 FB3 (in) "Feedback pin of positive charge pump", 16 OUT3 (power) "Positive charge pump output", 17 C2+ "Positive terminal for the charge pump flying capacitor.If the device runs in voltage doubler mode, this pin should be left open.", 18 C2-/MODE "Negative terminal of the charge pump flying capacitor and charge pump MODE pin. If the flying capacitor is connected to this pin, the concerter operates in a voltage tripler mode.if the charge pump needs to operate in a (See Datasheet)", 19 C1+ "Positive terminal of the charge pump flying capacitor", 20 C1- "Negative terminal of the charge pump flying capacitor", 21 DRV (power) "External charge pump driver", 22 GND (power) "Ground", 23 REF (out) "Internal reference output typically 1.23 V", 24 FB2 (in) "Feedback pin of negative charge pump", 25 EP (power) "The PowerPAD or exposed thermal die needs to be connected to power ground pins (PGND)"

## TPS65120RGTR
designator U?
4-Channel Single Inductor Multiple Outputs (SIMO) Bias IC with Fixed 3.3 V Vlogic, 2.5 to 5.5 V, -40 to 85 degC, 16-pin QFN (RGT16), Green (RoHS & no Sb/Br); Manufacturer: Texas Instruments; PartNumber: TPS65120RGTR; Iq(Typ)(mA): 0.181; Rating: Catalog; SubFamily: LCD/OLED Display Bias Solutions; Switching Frequency(Typ)(kHz): 4000; Synchronous Rectification: TRUE; Topology: Boost, Inverting Buck/Boost; Vin(Max)(V): 5.5; Vin(Min)(V): 2.5; DatasheetVersion: SLVS531A; PackageVersion: 4203495/H; PackageReference: RGT16-1700X1700TP; PackageDescription: 16-Pin Plastic Flat Pack, Body 3 x 3 mm, Pitch 0.5 mm; Supplier 1: Digi-Key; Supplier Part Number 1: 296-17181-2-ND; Supplier 2: Digi-Key; Supplier Part Number 2: 296-17181-1-ND; Supplier 3: Digi-Key; Supplier Part Number 3: 296-17181-6-ND; Supplier 4: Newark; Supplier Part Number 4: 21J9260; Supplier 5: Mouser; Supplier Part Number 5: 595-TPS65120RGTR; Eco-Plan: Green (RoHS & no Sb/Br); Mounting Technology: Surface Mount; Code_JEDEC: MO-220; ComponentLink1Description: Manufacturer URL; ComponentLink1URL: http://www.ti.com/; ComponentLink2Description: Datasheet; ComponentLink2URL: http://www.ti.com/general/docs/lit/getliterature.tsp?genericPartNumber=TPS65120&fileType=pdf; ComponentLink3Description: Package Specification; ComponentLink3URL: http://www.ti.com/litv/pdf/mpqf119g
footprint TI-RGT16-1700X1700TP_V (QFN, 16-Leads, Body 3x3mm, Pitch 0.5mm, Thermal Pad 1.7x1.7mm)
pins: 1 EN (in) "This is the enable pin of the multiple-output dc-to-dc converter. This pin must be terminated and not be left floating. A simultaneous logic-high level on EN and RUN enables the converter and a logic-low shuts down the (See Datasheet)", 2 RUN (in) "RUN controls the external P-Channel MOSFET. This pin must be terminated and not be left floating. Forcing this pin to a logic-high level turns on the external MOSFET switch.", 3 LDOIN (power) "Auxiliary linear regulator input. If this pin is connected to GND, the voltage regulator is disabled (TPS65120/1/2). The low-dropout series-pass regulator (LDO) is enabled according to the GATE signal timing.", 4 LDOOUT (power) "Auxiliary linear regulator output", 5 FBL (in) "Feedback pin for the negative output voltage divider. Regulates to 0 V nominal. Connect feedback resistor divider between VGL and main output.", 6 FBM (in) "Feedback pin for the main output voltage divider. Regulates to 1.213V nominal.", 7 AGND (power) "Analog ground. Connect to power ground (PGND) underneath IC.", 8 VMAIN (power) "Main output", 9 FBH (in) "Feedback pin for the positive output voltage divider. Regulates to 1.213 V nominal.", 10 VGH (power) "Positive output", 11 BOOT (power) "Provides a bootstrapped supply for the rectifier MOSFET driver, enabling the gate of the MOSFET to be driven above the output voltage.", 12 PGND (power) "Power ground. Connect to AGND underneath the IC.", 13 SWP (power) "Connect the inductor to this pin. This pin is connected to the drain of the low-side MOSFET switch.", 14 SWN (power) "Connect the inductor to this pin. This pin is connected to the source of the high-side MOSFET switch.", 15 VIN (power) "This is the input voltage pin of the device.", 16 GATE (io) "This pin can either be the gate driver output to an external small P-Channel MOSFET (see application section), or an active high control input. Pulling GATE above the 1.4 V logic-high level and RUN to a logic-low level (See Datasheet)", 17 EP (power) "Exposed Thermal Die AGND"